# EAGLE library part PROMINIV2NOFTDI (library GM cassette faker)
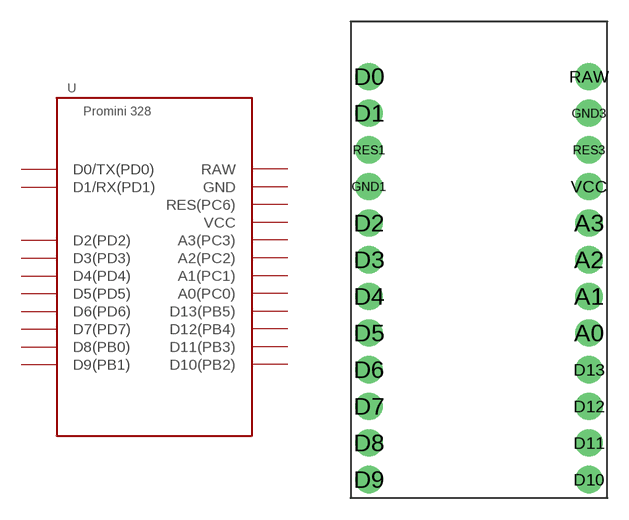
[diagram p2: symbol with the pads of PROMINIV2NOFTDI; footprint PROMINIV2NOFTDI]

Designator prefix U

## PROMINIV2NOFTDI  [PROMINIV2NOFTDI]
A0  A0(PC0)
A1  A1(PC1)
A2  A2(PC2)
A3  A3(PC3)
D0  D0/TX(PD0)
D1  D1/RX(PD1)
D2  D2(PD2)
D3  D3(PD3)
D4  D4(PD4)
D5  D5(PD5)
D6  D6(PD6)
D7  D7(PD7)
D8  D8(PB0)
D9  D9(PB1)
D10  D10(PB2)
D11  D11(PB3)
D12  D12(PB4)
D13  D13(PB5)
GND1  GND
GND3  GND
RAW  RAW
RES1  RES(PC6)
RES3  RES(PC6)
VCC  VCC

## Footprint PROMINIV2NOFTDI (pad centres in mm)
drill 1.016 pad 1.88: A0 7.62,-7.62; A1 7.62,-5.08; A2 7.62,-2.54; A3 7.62,0; D0 -7.62,10.16; D1 -7.62,7.62; D2 -7.62,0; D3 -7.62,-2.54; D4 -7.62,-5.08; D5 -7.62,-7.62; D6 -7.62,-10.16; D7 -7.62,-12.7; D8 -7.62,-15.24; D9 -7.62,-17.78; D10 7.62,-17.78; D11 7.62,-15.24; D12 7.62,-12.7; D13 7.62,-10.16; GND1 -7.62,2.54; GND3 7.62,7.62; RAW 7.62,10.16; RES1 -7.62,5.08; RES3 7.62,5.08; VCC 7.62,2.54